# Altium footprint library MB10S.PcbLib: 1 footprints
Each footprint in its own frame and in the unit in brackets; x right, y up, seen from the top. Pads: shape width x height; smd on the part's side, far side on the other; paste and mask are expansions set on the pad; w line width, h text height; cw(c..) or ccw(c..) is an arc to the next point about the centre after c.
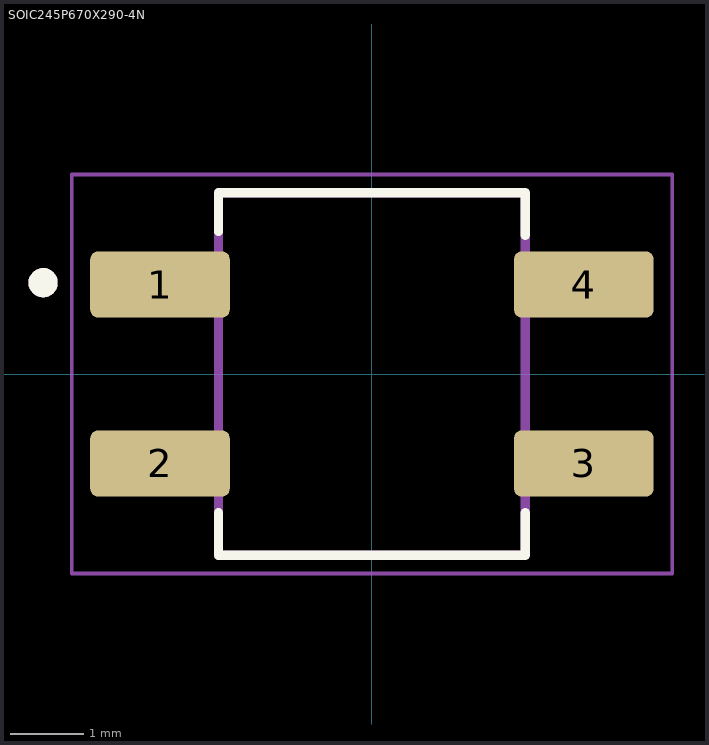
[diagram p0: the footprint, top view; thin cyan lines are the x and y axes]

## SOIC245P670X290-4N [mm]
pads (4):
  rrect23% 1.91x0.91 smd: 1(-2.9,1.225) 2(-2.9,-1.225) 3(2.9,-1.225) 4(2.9,1.225)
Top Overlay:
  circle w0.2: c-4.5,1.25 r0.1
  lines w0.127: -2.1,-1.9 -2.1,-2.48 2.1,-2.48 2.1,-1.9 ; -2.1,1.95 -2.1,2.48 2.1,2.48 2.1,1.9
Mechanical 13:
  circle w0.2: c-4.5,1.25 r0.1
  lines w0.127: -2.1,-2.48 -2.1,2.48 2.1,2.48 2.1,-2.48 -2.1,-2.48
Mechanical 15:
  lines w0.05: -4.11,-2.73 4.11,-2.73 4.11,2.73 -4.11,2.73 -4.11,-2.73
3D body "step_temp.STEP": height 2.7, standoff -0.2, extent -2.362,-3.35 2.362,3.35